# EAGLE library part CY8C29466 (library rfid)
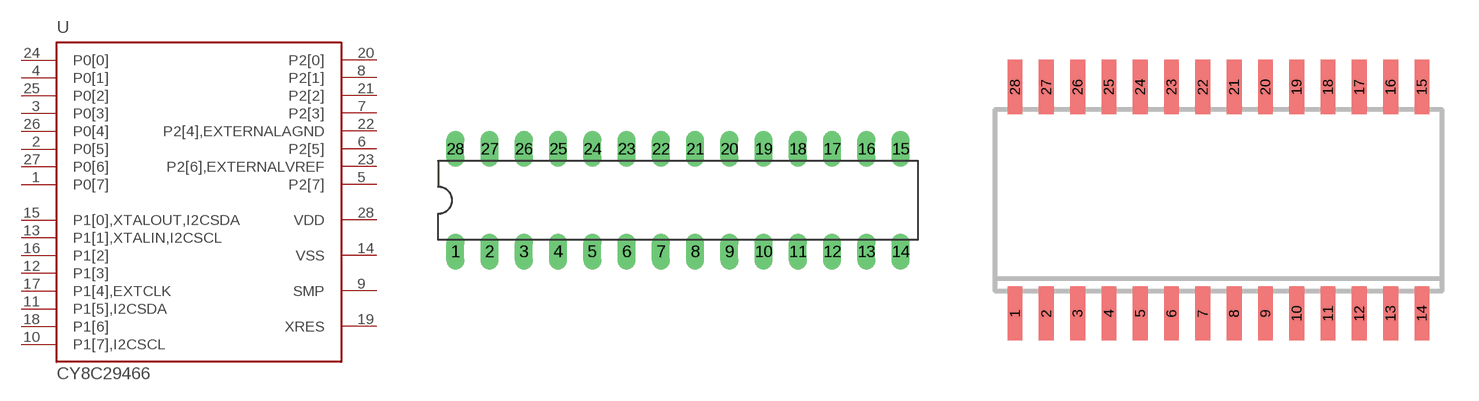
[diagram p0: symbol with the pads of DIL28-3; footprints DIL28-3, SO28W]

Designator prefix U

## CY8C29466-24PXI  [DIL28-3]
1  P0[7]
2  P0[5]
3  P0[3]
4  P0[1]
5  P2[7]
6  P2[5]
7  P2[3]
8  P2[1]
9  SMP
10  P1[7],I2CSCL
11  P1[5],I2CSDA
12  P1[3]
13  P1[1],XTALIN,I2CSCL
14  VSS
15  P1[0],XTALOUT,I2CSDA
16  P1[2]
17  P1[4],EXTCLK
18  P1[6]
19  XRES
20  P2[0]
21  P2[2]
22  P2[4],EXTERNALAGND
23  P2[6],EXTERNALVREF
24  P0[0]
25  P0[2]
26  P0[4]
27  P0[6]
28  VDD

## CY8C29466-24SXI  [SO28W]
Pads as for DIL28-3

## Footprint DIL28-3 (pad centres in mm)
Dual In Line Package Small
drill 0.813 long: 1 -16.51,-3.81; 2 -13.97,-3.81; 3 -11.43,-3.81; 4 -8.89,-3.81; 5 -6.35,-3.81; 6 -3.81,-3.81; 7 -1.27,-3.81; 8 1.27,-3.81; 9 3.81,-3.81; 10 6.35,-3.81; 11 8.89,-3.81; 12 11.43,-3.81; 13 13.97,-3.81; 14 16.51,-3.81; 15 16.51,3.81; 16 13.97,3.81; 17 11.43,3.81; 18 8.89,3.81; 19 6.35,3.81; 20 3.81,3.81; 21 1.27,3.81; 22 -1.27,3.81; 23 -3.81,3.81; 24 -6.35,3.81; 25 -8.89,3.81; 26 -11.43,3.81; 27 -13.97,3.81; 28 -16.51,3.81

## Footprint SO28W (pad centres in mm)
SMALL OUTLINE INTEGRATED CIRCUIT wide body 7.5 mm/JEDEC MO-119AB
smd 0.6 x 2.2: 1 -8.255,-4.6; 2 -6.985,-4.6; 3 -5.715,-4.6; 4 -4.445,-4.6; 5 -3.175,-4.6; 6 -1.905,-4.6; 7 -0.635,-4.6; 8 0.635,-4.6; 9 1.905,-4.6; 10 3.175,-4.6; 11 4.445,-4.6; 12 5.715,-4.6; 13 6.985,-4.6; 14 8.255,-4.6; 15 8.255,4.6; 16 6.985,4.6; 17 5.715,4.6; 18 4.445,4.6; 19 3.175,4.6; 20 1.905,4.6; 21 0.635,4.6; 22 -0.635,4.6; 23 -1.905,4.6; 24 -3.175,4.6; 25 -4.445,4.6; 26 -5.715,4.6; 27 -6.985,4.6; 28 -8.255,4.6